# Altium footprint library con-subd.PCBLIB: 94 footprints (part 4 of 6)
Each footprint in its own frame and in the unit in brackets; x right, y up, seen from the top. Pads: shape width x height; smd on the part's side, far side on the other; paste and mask are expansions set on the pad; w line width, h text height; cw(c..) or ccw(c..) is an arc to the next point about the centre after c.
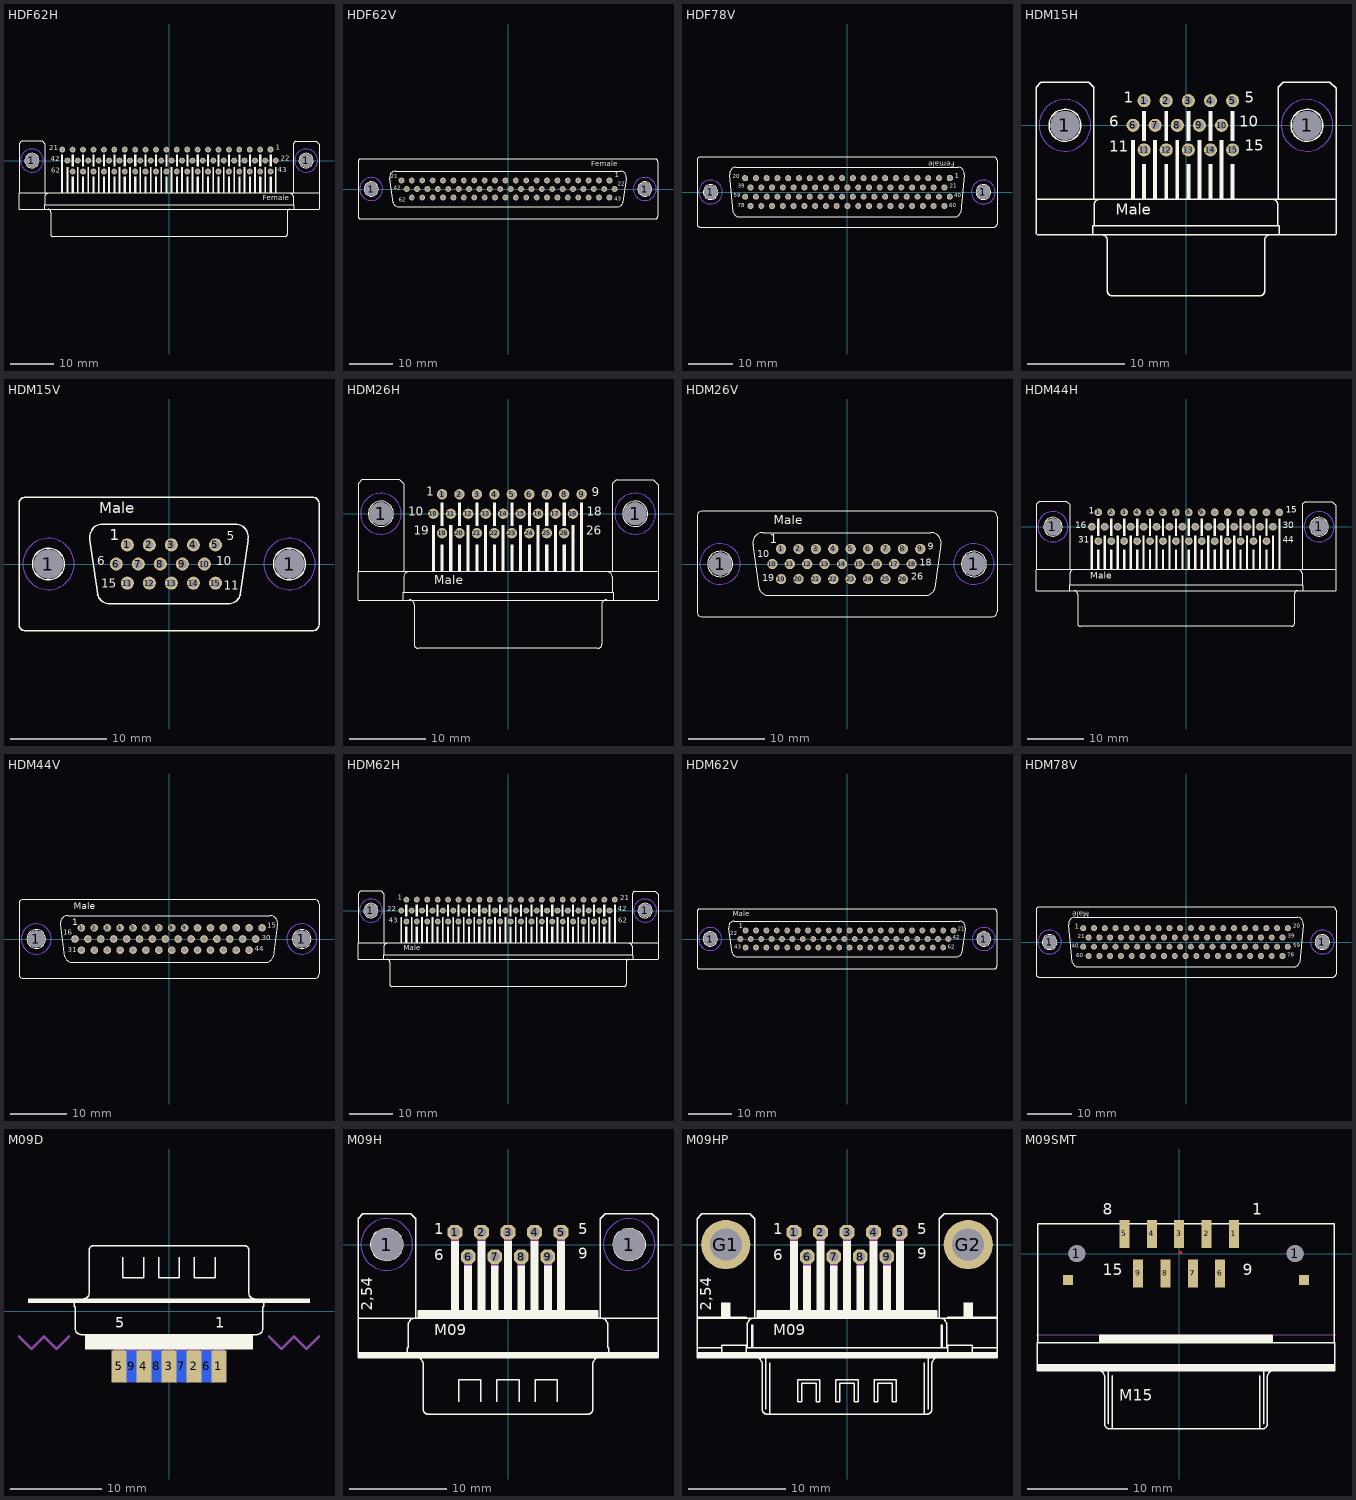
[diagram p3: the footprints below, top view; thin cyan lines are the x and y axes]

## HDF62H [mm]
pads (64):
  round 3 hole 3: 1(-31.75,0) 1(31.75,0)
  oct 1.35x1.35 hole 0.9: 1(23.527,2.54)
  round 1.35 hole 0.9: 2(21.114,2.54) 3(18.701,2.54) 4(16.288,2.54) 5(13.875,2.54) 6(11.462,2.54) 7(9.049,2.54) 8(6.636,2.54) 9(4.223,2.54) 10(1.81,2.54) 11(-0.603,2.54) 12(-3.016,2.54) 13(-5.429,2.54) 14(-7.842,2.54) 15(-10.255,2.54) 16(-12.668,2.54) 17(-15.081,2.54) 18(-17.494,2.54) 19(-19.907,2.54) 20(-22.32,2.54) 21(-24.733,2.54) 22(24.734,0) 23(22.321,0) 24(19.908,0) 25(17.495,0) 26(15.082,0) 27(12.669,0) 28(10.256,0) 29(7.843,0) 30(5.43,0) 31(3.017,0) 32(0.604,0) 33(-1.809,0) 34(-4.222,0) 35(-6.635,0) 36(-9.048,0) 37(-11.461,0) 38(-13.874,0) 39(-16.287,0) 40(-18.7,0) 41(-21.113,0) 42(-23.526,0) 43(23.527,-2.54) 44(21.114,-2.54) 45(18.701,-2.54) 46(16.288,-2.54) 47(13.875,-2.54) 48(11.462,-2.54) 49(9.049,-2.54) 50(6.636,-2.54) 51(4.223,-2.54) 52(1.81,-2.54) 53(-0.603,-2.54) 54(-3.016,-2.54) 55(-5.429,-2.54) 56(-7.842,-2.54) 57(-10.255,-2.54) 58(-12.668,-2.54) 59(-15.081,-2.54) 60(-17.494,-2.54) 61(-19.907,-2.54) 62(-22.32,-2.54)
Bottom Layer keep-out:
  circle w0: c31.75,0 r2.667
  circle w0: c-31.75,0 r2.667
Top Overlay:
  circle w0.152: c31.75,0 r1.651
  circle w0.152: c-31.75,0 r1.651
  rectangle: 24.534,-7.6 24.934,-1.5
  rectangle: 22.121,-7.6 22.521,-1.5
  rectangle: 19.708,-7.6 20.108,-1.5
  rectangle: 17.295,-7.6 17.695,-1.5
  rectangle: 14.882,-7.6 15.282,-1.5
  rectangle: 12.469,-7.6 12.869,-1.5
  rectangle: 10.056,-7.6 10.456,-1.5
  rectangle: 7.643,-7.6 8.043,-1.5
  rectangle: 5.23,-7.6 5.63,-1.5
  rectangle: 2.817,-7.6 3.217,-1.5
  rectangle: 0.404,-7.6 0.804,-1.5
  rectangle: -2.009,-7.6 -1.609,-1.5
  rectangle: -4.422,-7.6 -4.022,-1.5
  rectangle: -6.835,-7.6 -6.435,-1.5
  rectangle: -9.248,-7.6 -8.848,-1.5
  rectangle: -11.661,-7.6 -11.261,-1.5
  rectangle: -14.074,-7.6 -13.674,-1.5
  rectangle: -16.487,-7.6 -16.087,-1.5
  rectangle: -18.9,-7.6 -18.5,-1.5
  rectangle: -21.313,-7.6 -20.913,-1.5
  rectangle: -23.726,-7.6 -23.326,-1.5
  rectangle: 23.3,-7.6 23.8,-3.7
  rectangle: 23.3,-1.4 23.8,1.4
  rectangle: 20.887,-7.6 21.387,-3.7
  rectangle: 18.474,-7.6 18.974,-3.7
  rectangle: 20.887,-1.4 21.387,1.4
  rectangle: 18.474,-1.4 18.974,1.4
  rectangle: 16.061,-1.4 16.561,1.4
  rectangle: 16.061,-7.6 16.561,-3.7
  rectangle: 13.648,-7.6 14.148,-3.7
  rectangle: 13.648,-1.4 14.148,1.4
  rectangle: 11.235,-7.6 11.735,-3.7
  rectangle: 8.822,-7.6 9.322,-3.7
  rectangle: 11.235,-1.4 11.735,1.4
  rectangle: 8.822,-1.4 9.322,1.4
  rectangle: 6.409,-1.4 6.909,1.4
  rectangle: 6.409,-7.6 6.909,-3.7
  rectangle: 3.996,-7.6 4.496,-3.7
  rectangle: 3.996,-1.4 4.496,1.4
  rectangle: 1.583,-7.6 2.083,-3.7
  rectangle: -0.83,-7.6 -0.33,-3.7
  rectangle: 1.583,-1.4 2.083,1.4
  rectangle: -0.83,-1.4 -0.33,1.4
  rectangle: -3.243,-1.4 -2.743,1.4
  rectangle: -3.243,-7.6 -2.743,-3.7
  rectangle: -5.656,-7.6 -5.156,-3.7
  rectangle: -5.656,-1.4 -5.156,1.4
  rectangle: -8.069,-7.6 -7.569,-3.7
  rectangle: -10.482,-7.6 -9.982,-3.7
  rectangle: -8.069,-1.4 -7.569,1.4
  rectangle: -10.482,-1.4 -9.982,1.4
  rectangle: -12.895,-1.4 -12.395,1.4
  rectangle: -12.895,-7.6 -12.395,-3.7
  rectangle: -15.308,-7.6 -14.808,-3.7
  rectangle: -15.308,-1.4 -14.808,1.4
  rectangle: -17.721,-7.6 -17.221,-3.7
  rectangle: -20.134,-7.6 -19.634,-3.7
  rectangle: -17.721,-1.4 -17.221,1.4
  rectangle: -20.134,-1.4 -19.634,1.4
  rectangle: -22.547,-1.4 -22.047,1.4
  rectangle: -22.547,-7.6 -22.047,-3.7
  rectangle: -25,-7.6 -24.5,1.4
  lines w0.152: -34.744,-11.276 -34.744,-7.62 ; -34.7,-11.3 34.7,-11.3 ; -28.864,-11.276 -28.864,-10.368 -28.737,-10.368 ; -28.775,-7.62 -28.775,3.937 -29.283,4.445 -34.236,4.445 -34.744,3.937 -34.744,-7.62 ; -28.102,-7.62 ccw(c-28.102,-8.255) -28.737,-8.255 -28.737,-10.368 ; -28.013,-11.284 cw(c-28.013,-11.919) -27.378,-11.919 -27.378,-17.099 ccw(c-26.87,-17.099) -26.87,-17.607 26.87,-17.607 ccw(c26.87,-17.099) 27.378,-17.099 27.378,-11.919 cw(c28.013,-11.919) 28.013,-11.284 ; 28.102,-7.62 cw(c28.102,-8.255) 28.737,-8.255 28.737,-10.368 ; 28.775,-7.62 28.775,3.937 29.283,4.445 34.109,4.445 34.744,3.81 34.744,-11.276 ; 28.864,-11.276 28.864,-10.368 28.737,-10.368 ; 34.656,-7.62 -34.744,-7.62 ; -28.737,-10.368 28.737,-10.368
  text "1" at 24.742,2.095 h1.97
  text "21" at -27.69,1.895 h1.97
  text "42" at -27.333,-0.665 h1.97
  text "62" at -27.295,-3.265 h1.97
  text "22" at 25.842,-0.465 h1.97
  text "43" at 25.242,-3.165 h1.97
  text "Female" at 21.717,-9.652 h1.97
Mechanical 16:
  text "HDF62 CONEC" at -25.368,-9.891 h1.97
Via Holes:
  circle w0: c31.75,0 r2.667
  circle w0: c-31.75,0 r2.667

## HDF62V [mm]
pads (64):
  round 3 hole 3: 1(-31.75,0) 1(31.75,0)
  oct 1.35x1.35 hole 0.9: 1(23.532,1.98)
  round 1.35 hole 0.9: 2(21.119,1.98) 3(18.706,1.98) 4(16.293,1.98) 5(13.88,1.98) 6(11.467,1.98) 7(9.054,1.98) 8(6.641,1.98) 9(4.228,1.98) 10(1.815,1.98) 11(-0.598,1.98) 12(-3.011,1.98) 13(-5.424,1.98) 14(-7.837,1.98) 15(-10.25,1.98) 16(-12.663,1.98) 17(-15.076,1.98) 18(-17.489,1.98) 19(-19.902,1.98) 20(-22.315,1.98) 21(-24.728,1.98) 22(24.739,0) 23(22.325,0) 24(19.912,0) 25(17.499,0) 26(15.086,0) 27(12.673,0) 28(10.26,0) 29(7.847,0) 30(5.434,0) 31(3.021,0) 32(0.608,0) 33(-1.805,0) 34(-4.218,0) 35(-6.631,0) 36(-9.044,0) 37(-11.457,0) 38(-13.87,0) 39(-16.283,0) 40(-18.696,0) 41(-21.109,0) 42(-23.522,0) 43(23.532,-1.98) 44(21.119,-1.98) 45(18.706,-1.98) 46(16.293,-1.98) 47(13.88,-1.98) 48(11.467,-1.98) 49(9.054,-1.98) 50(6.641,-1.98) 51(4.228,-1.98) 52(1.815,-1.98) 53(-0.598,-1.98) 54(-3.011,-1.98) 55(-5.424,-1.98) 56(-7.837,-1.98) 57(-10.25,-1.98) 58(-12.663,-1.98) 59(-15.076,-1.98) 60(-17.489,-1.98) 61(-19.902,-1.98) 62(-22.315,-1.98)
Bottom Layer keep-out:
  circle w0: c31.75,0 r2.667
  circle w0: c-31.75,0 r2.667
Top Overlay:
  circle w0.152: c31.75,0 r1.651
  circle w0.152: c-31.75,0 r1.651
  lines w0.152: -34.171,-6.923 cw(c-34.171,-6.288) -34.806,-6.288 -34.806,6.288 cw(c-34.171,6.288) -34.171,6.923 34.163,6.923 ; -34.163,-6.923 34.171,-6.923 ccw(c34.171,-6.288) 34.806,-6.288 34.806,6.288 ccw(c34.171,6.288) 34.171,6.923 ; -27.447,2.537 -26.659,-3.146 ; -27.446,2.527 cw(c-26.126,2.791) -26.126,4.137 26.126,4.137 cw(c26.126,2.791) 27.441,2.504 ; -26.667,-3.13 ccw(c-25.364,-2.791) -25.364,-4.137 25.364,-4.137 ccw(c25.364,-2.791) 26.667,-3.13 ; 26.659,-3.121 27.447,2.511
  text "1" at 24.747,2.295 h1.97
  text "62" at -25.323,-3.265 h1.57
  text "21" at -27.218,2.195 h1.57
  text "42" at -26.475,-0.565 h1.57
  text "22" at 25.468,0.435 h1.57
  text "43" at 24.69,-3.065 h1.57
  text "Female" at 19.304,4.826 h1.97
Mechanical 16:
  text "HDF62 CONEC" at -24.098,5.349 h1.97
Via Holes:
  circle w0: c31.75,0 r2.667
  circle w0: c-31.75,0 r2.667

## HDF78V [mm]
pads (80):
  round 3 hole 3: 1(-30.55,0) 1(30.55,0)
  oct 1.35x1.35 hole 0.9: 1(23.024,3.12)
  round 1.35 hole 0.9: 2(20.611,3.12) 3(18.198,3.12) 4(15.785,3.12) 5(13.372,3.12) 6(10.959,3.12) 7(8.546,3.12) 8(6.133,3.12) 9(3.72,3.12) 10(1.307,3.12) 11(-1.106,3.12) 12(-3.519,3.12) 13(-5.932,3.12) 14(-8.345,3.12) 15(-10.758,3.12) 16(-13.171,3.12) 17(-15.584,3.12) 18(-17.997,3.12) 19(-20.41,3.12) 20(-22.823,3.12) 21(21.817,1.04) 22(19.404,1.04) 23(16.991,1.04) 24(14.578,1.04) 25(12.165,1.04) 26(9.752,1.04) 27(7.339,1.04) 28(4.926,1.04) 29(2.513,1.04) 30(0.1,1.04) 31(-2.313,1.04) 32(-4.726,1.04) 33(-7.139,1.04) 34(-9.552,1.04) 35(-11.965,1.04) 36(-14.378,1.04) 37(-16.791,1.04) 38(-19.204,1.04) 39(-21.617,1.04) 40(23.024,-1.04) 41(20.611,-1.04) 42(18.198,-1.04) 43(15.785,-1.04) 44(13.372,-1.04) 45(10.959,-1.04) 46(8.546,-1.04) 47(6.133,-1.04) 48(3.72,-1.04) 49(1.307,-1.04) 50(-1.106,-1.04) 51(-3.519,-1.04) 52(-5.932,-1.04) 53(-8.345,-1.04) 54(-10.758,-1.04) 55(-13.171,-1.04) 56(-15.584,-1.04) 57(-17.997,-1.04) 58(-20.41,-1.04) 59(-22.823,-1.04) 60(21.817,-3.12) 61(19.404,-3.12) 62(16.991,-3.12) 63(14.578,-3.12) 64(12.165,-3.12) 65(9.752,-3.12) 66(7.339,-3.12) 67(4.926,-3.12) 68(2.513,-3.12) 69(0.1,-3.12) 70(-2.313,-3.12) 71(-4.726,-3.12) 72(-7.139,-3.12) 73(-9.552,-3.12) 74(-11.965,-3.12) 75(-14.378,-3.12) 76(-16.791,-3.12) 77(-19.204,-3.12) 78(-21.617,-3.12)
Bottom Layer keep-out:
  circle w0: c30.55,0 r2.667
  circle w0: c-30.55,0 r2.667
Top Overlay:
  circle w0.152: c30.55,0 r1.651
  circle w0.152: c-30.55,0 r1.651
  lines w0.152: -32.971,-7.823 cw(c-32.971,-7.188) -33.606,-7.188 -33.606,7.188 cw(c-32.971,7.188) -32.971,7.823 32.963,7.823 ; -32.963,-7.823 32.971,-7.823 ccw(c32.971,-7.188) 33.606,-7.188 33.606,7.188 ccw(c32.971,7.188) 32.971,7.823 ; -26.247,3.937 -25.459,-4.546 ; -26.246,3.927 cw(c-24.926,4.191) -24.926,5.537 24.926,5.537 cw(c24.926,4.191) 26.242,3.904 ; -25.467,-4.53 ccw(c-24.164,-4.191) -24.164,-5.537 24.164,-5.537 ccw(c24.164,-4.191) 25.467,-4.53 ; 25.459,-4.521 26.247,3.911
  text "1" at 24.132,2.695 h1.97
  text "21" at 23.053,0.635 h1.57
  text "40" at 23.975,-1.465 h1.57
  text "60" at 22.875,-3.765 h1.57
  text "20" at -25.618,2.795 h1.57
  text "39" at -24.475,0.635 h1.57
  text "59" at -25.423,-1.465 h1.57
  text "78" at -24.423,-3.765 h1.57
  text "Female" at 24.13,7.239 h1.97
Mechanical 16:
  text "HDF78 CONEC" at -23.998,6.149 h1.97
Via Holes:
  circle w0: c30.55,0 r2.667
  circle w0: c-30.55,0 r2.667

## HDM15H [mm]
pads (17):
  round 3 hole 3: 1(-12.5,0) 1(12.5,0)
  round 1.35 hole 0.9: 1(-4.329,2.54) 2(-2.043,2.54) 3(0.243,2.54) 4(2.529,2.54) 5(4.815,2.54) 6(-5.472,0) 7(-3.186,0) 8(-0.9,0) 9(1.386,0) 10(3.672,0) 11(-4.329,-2.54) 12(-2.043,-2.54) 13(0.243,-2.54) 14(2.529,-2.54) 15(4.815,-2.54)
Bottom Layer keep-out:
  circle w0: c12.5,0 r2.667
  circle w0: c-12.5,0 r2.667
Top Overlay:
  circle w0.152: c12.5,0 r1.651
  circle w0.152: c-12.5,0 r1.651
  rectangle: -1.1,-7.6 -0.7,-1.5
  rectangle: 1.186,-7.6 1.586,-1.5
  rectangle: 3.472,-7.6 3.872,-1.5
  rectangle: -3.386,-7.6 -2.986,-1.5
  rectangle: -5.672,-7.6 -5.272,-1.5
  rectangle: 0.043,-7.6 0.443,-4
  rectangle: 2.329,-7.6 2.729,-4
  rectangle: 4.615,-7.6 5.015,-4
  rectangle: -2.243,-7.6 -1.843,-4
  rectangle: -4.529,-7.6 -4.129,-4
  rectangle: 4.615,-1.6 5.015,1.5
  rectangle: 2.329,-1.6 2.729,1.5
  rectangle: 0.043,-1.6 0.443,1.5
  rectangle: -2.243,-1.6 -1.843,1.5
  rectangle: -4.529,-1.6 -4.129,1.5
  lines w0.152: -15.494,-11.276 -15.494,-7.62 ; -15.38,-11.294 15.476,-11.294 ; -9.614,-11.276 -9.614,-10.368 -9.487,-10.368 ; -9.525,-7.62 -9.525,3.937 -10.033,4.445 -14.986,4.445 -15.494,3.937 -15.494,-7.62 ; -8.852,-7.62 ccw(c-8.852,-8.255) -9.487,-8.255 -9.487,-10.368 ; -8.763,-11.284 cw(c-8.763,-11.919) -8.128,-11.919 -8.128,-17.099 ccw(c-7.62,-17.099) -7.62,-17.607 7.62,-17.607 ccw(c7.62,-17.099) 8.128,-17.099 8.128,-11.919 cw(c8.763,-11.919) 8.763,-11.284 ; 8.852,-7.62 cw(c8.852,-8.255) 9.487,-8.255 9.487,-10.368 ; 9.525,-7.62 9.525,3.937 10.033,4.445 14.859,4.445 15.494,3.81 15.494,-11.276 ; 9.614,-11.276 9.614,-10.368 9.487,-10.368 ; 15.475,-7.62 -15.494,-7.62 ; -9.487,-10.368 9.487,-10.368
  text "1" at -6.42,1.895 h1.97
  text "5" at 6.085,1.895 h1.97
  text "6" at -7.92,-0.565 h1.97
  text "10" at 5.485,-0.565 h1.97
  text "15" at 6.08,-3.065 h1.97
  text "11" at -7.92,-3.165 h1.97
  text "Male" at -7.239,-9.652 h1.97
Mechanical 16:
  text "HDM15 CONEC" at -6.064,-14.717 h1.97
Via Holes:
  circle w0: c12.5,0 r2.667
  circle w0: c-12.5,0 r2.667

## HDM15V [mm]
pads (17):
  round 3 hole 3: 1(-12.5,0) 1(12.5,0)
  round 1.35 hole 0.9: 1(-4.324,1.98) 2(-2.038,1.98) 3(0.248,1.98) 4(2.534,1.98) 5(4.82,1.98) 6(-5.467,0) 7(-3.181,0) 8(-0.895,0) 9(1.391,0) 10(3.677,0) 11(-4.324,-1.98) 12(-2.038,-1.98) 13(0.248,-1.98) 14(2.534,-1.98) 15(4.82,-1.98)
Bottom Layer keep-out:
  circle w0: c12.5,0 r2.667
  circle w0: c-12.5,0 r2.667
Top Overlay:
  circle w0.152: c12.5,0 r1.651
  circle w0.152: c-12.5,0 r1.651
  lines w0.152: -14.921,-6.923 cw(c-14.921,-6.288) -15.556,-6.288 -15.556,6.288 cw(c-14.921,6.288) -14.921,6.923 14.913,6.923 ; -14.913,-6.923 14.921,-6.923 ccw(c14.921,-6.288) 15.556,-6.288 15.556,6.288 ccw(c14.921,6.288) 14.921,6.923 ; -8.196,2.527 cw(c-6.876,2.791) -6.876,4.137 6.876,4.137 cw(c6.876,2.791) 8.191,2.504 ; -8.197,2.537 -7.409,-3.146 ; -7.417,-3.13 ccw(c-6.114,-2.791) -6.114,-4.137 6.114,-4.137 ccw(c6.114,-2.791) 7.417,-3.13 ; 7.409,-3.121 8.197,2.511
  text "1" at -6.12,2.035 h1.97
  text "5" at 5.985,2.135 h1.57
  text "6" at -7.42,-0.465 h1.57
  text "10" at 4.885,-0.465 h1.57
  text "15" at -7.02,-2.765 h1.57
  text "11" at 5.68,-3.005 h1.57
  text "Male" at -7.239,4.826 h1.97
Mechanical 16:
  text "HDF15 CONEC" at 0.032,5.349 h1.97
Via Holes:
  circle w0: c12.5,0 r2.667
  circle w0: c-12.5,0 r2.667

## HDM26H [mm]
pads (28):
  round 3 hole 3: 1(-16.65,0) 1(16.65,0)
  round 1.35 hole 0.9: 1(-8.639,2.54) 2(-6.353,2.54) 3(-4.067,2.54) 4(-1.781,2.54) 5(0.505,2.54) 6(2.791,2.54) 7(5.077,2.54) 8(7.363,2.54) 9(9.649,2.54) 10(-9.782,0) 11(-7.496,0) 12(-5.21,0) 13(-2.924,0) 14(-0.638,0) 15(1.648,0) 16(3.934,0) 17(6.22,0) 18(8.506,0) 19(-8.639,-2.54) 20(-6.353,-2.54) 21(-4.067,-2.54) 22(-1.781,-2.54) 23(0.505,-2.54) 24(2.791,-2.54) 25(5.077,-2.54) 26(7.363,-2.54)
Bottom Layer keep-out:
  circle w0: c16.65,0 r2.667
  circle w0: c-16.65,0 r2.667
Top Overlay:
  circle w0.152: c16.65,0 r1.651
  circle w0.152: c-16.65,0 r1.651
  rectangle: -5.41,-7.6 -5.01,-1.5
  rectangle: -3.124,-7.6 -2.724,-1.5
  rectangle: -0.838,-7.6 -0.438,-1.5
  rectangle: -7.696,-7.6 -7.296,-1.5
  rectangle: -9.982,-7.6 -9.582,-1.5
  rectangle: -4.267,-7.6 -3.867,-4
  rectangle: -1.981,-7.6 -1.581,-4
  rectangle: 0.305,-7.6 0.705,-4
  rectangle: -6.553,-7.6 -6.153,-4
  rectangle: -8.839,-7.6 -8.439,-4
  rectangle: 0.305,-1.6 0.705,1.5
  rectangle: -1.981,-1.6 -1.581,1.5
  rectangle: -4.267,-1.6 -3.867,1.5
  rectangle: -6.553,-1.6 -6.153,1.5
  rectangle: -8.839,-1.6 -8.439,1.5
  rectangle: 6.02,-7.6 6.42,-1.5
  rectangle: 8.306,-7.6 8.706,-1.5
  rectangle: 3.734,-7.6 4.134,-1.5
  rectangle: 7.163,-7.6 7.563,-4
  rectangle: 4.877,-7.6 5.277,-4
  rectangle: 2.591,-7.6 2.991,-4
  rectangle: 1.448,-7.6 1.848,-1.5
  rectangle: 2.591,-1.6 2.991,1.5
  rectangle: 4.877,-1.6 5.277,1.5
  rectangle: 7.163,-1.6 7.563,1.5
  rectangle: 9.449,-1.6 9.849,1.5
  rectangle: 9.449,-7.6 9.849,-1.5
  lines w0.152: -19.644,-11.276 -19.644,-7.62 ; -19.6,-11.3 19.6,-11.3 ; -13.764,-11.276 -13.764,-10.368 -13.637,-10.368 ; -13.675,-7.62 -13.675,3.937 -14.183,4.445 -19.136,4.445 -19.644,3.937 -19.644,-7.62 ; -13.002,-7.62 ccw(c-13.002,-8.255) -13.637,-8.255 -13.637,-10.368 ; -12.913,-11.284 cw(c-12.913,-11.919) -12.278,-11.919 -12.278,-17.099 ccw(c-11.77,-17.099) -11.77,-17.607 11.77,-17.607 ccw(c11.77,-17.099) 12.278,-17.099 12.278,-11.919 cw(c12.913,-11.919) 12.913,-11.284 ; 13.002,-7.62 cw(c13.002,-8.255) 13.637,-8.255 13.637,-10.368 ; 13.675,-7.62 13.675,3.937 14.183,4.445 19.009,4.445 19.644,3.81 19.644,-11.276 ; 13.764,-11.276 13.764,-10.368 13.637,-10.368 ; 19.556,-7.62 -19.644,-7.62 ; -13.637,-10.368 13.637,-10.368
  text "1" at -10.727,1.995 h1.97
  text "10" at -13.04,-0.665 h1.97
  text "9" at 10.981,1.895 h1.97
  text "18" at 10.281,-0.665 h1.97
  text "19" at -12.327,-3.165 h1.97
  text "26" at 10.219,-3.165 h1.97
  text "Male" at -9.652,-9.652 h1.97
Mechanical 16:
  text "HDM26 CONEC" at -1.238,-9.891 h1.97
Via Holes:
  circle w0: c16.65,0 r2.667
  circle w0: c-16.65,0 r2.667

## HDM26V [mm]
pads (28):
  round 3 hole 3: 1(-16.65,0) 1(16.65,0)
  round 1.35 hole 0.9: 1(-8.658,1.98) 2(-6.372,1.98) 3(-4.086,1.98) 4(-1.8,1.98) 5(0.486,1.98) 6(2.772,1.98) 7(5.058,1.98) 8(7.344,1.98) 9(9.63,1.98) 10(-9.801,0) 11(-7.515,0) 12(-5.229,0) 13(-2.943,0) 14(-0.657,0) 15(1.629,0) 16(3.915,0) 17(6.201,0) 18(8.487,0) 19(-8.658,-1.98) 20(-6.372,-1.98) 21(-4.086,-1.98) 22(-1.8,-1.98) 23(0.486,-1.98) 24(2.772,-1.98) 25(5.058,-1.98) 26(7.344,-1.98)
Bottom Layer keep-out:
  circle w0: c16.672,0 r2.667
  circle w0: c-16.672,0 r2.667
Top Overlay:
  circle w0.152: c16.672,0 r1.651
  circle w0.152: c-16.672,0 r1.651
  lines w0.152: -19.071,-6.923 cw(c-19.071,-6.288) -19.706,-6.288 -19.706,6.288 cw(c-19.071,6.288) -19.071,6.923 19.063,6.923 ; -19.063,-6.923 19.071,-6.923 ccw(c19.071,-6.288) 19.706,-6.288 19.706,6.288 ccw(c19.071,6.288) 19.071,6.923 ; -12.347,2.537 -11.559,-3.146 ; -12.346,2.527 cw(c-11.026,2.791) -11.026,4.137 11.026,4.137 cw(c11.026,2.79) 12.342,2.504 ; -11.567,-3.13 ccw(c-10.264,-2.791) -10.264,-4.137 10.264,-4.137 ccw(c10.264,-2.791) 11.567,-3.13 ; 11.559,-3.121 12.347,2.511
  text "1" at -10.179,2.335 h1.97
  text "26" at 8.458,-2.405 h1.57
  text "10" at -11.76,0.535 h1.57
  text "9" at 10.63,1.535 h1.57
  text "18" at 9.533,-0.565 h1.57
  text "19" at -11.111,-2.605 h1.57
  text "Male" at -9.652,4.826 h1.97
Mechanical 16:
  text "HDF26 CONEC" at 0.032,5.349 h1.97
Via Holes:
  circle w0: c16.672,0 r2.667
  circle w0: c-16.672,0 r2.667

## HDM44H [mm]
pads (46):
  round 3 hole 3: 1(-23.52,0) 1(23.52,0)
  round 1.35 hole 0.9: 1(-15.497,2.54) 2(-13.211,2.54) 3(-10.925,2.54) 4(-8.639,2.54) 5(-6.353,2.54) 6(-4.067,2.54) 7(-1.781,2.54) 8(0.505,2.54) 9(2.791,2.54) 10(5.077,2.54) 11(7.363,2.54) 12(9.649,2.54) 13(11.935,2.54) 14(14.221,2.54) 15(16.507,2.54) 16(-16.64,0) 17(-14.354,0) 18(-12.068,0) 19(-9.782,0) 20(-7.496,0) 21(-5.21,0) 22(-2.924,0) 23(-0.638,0) 24(1.648,0) 25(3.934,0) 26(6.22,0) 27(8.506,0) 28(10.792,0) 29(13.078,0) 30(15.364,0) 31(-15.497,-2.54) 32(-13.211,-2.54) 33(-10.925,-2.54) 34(-8.639,-2.54) 35(-6.353,-2.54) 36(-4.067,-2.54) 37(-1.781,-2.54) 38(0.505,-2.54) 39(2.791,-2.54) 40(5.077,-2.54) 41(7.363,-2.54) 42(9.649,-2.54) 43(11.935,-2.54) 44(14.221,-2.54)
Bottom Layer keep-out:
  circle w0: c23.52,0 r2.667
  circle w0: c-23.52,0 r2.667
Top Overlay:
  circle w0.152: c23.52,0 r1.651
  circle w0.152: c-23.52,0 r1.651
  rectangle: -12.268,-7.6 -11.868,-1.5
  rectangle: -9.982,-7.6 -9.582,-1.5
  rectangle: -7.696,-7.6 -7.296,-1.5
  rectangle: -14.554,-7.6 -14.154,-1.5
  rectangle: -16.84,-7.6 -16.44,-1.5
  rectangle: -11.125,-7.6 -10.725,-4
  rectangle: -8.839,-7.6 -8.439,-4
  rectangle: -6.553,-7.6 -6.153,-4
  rectangle: -13.411,-7.6 -13.011,-4
  rectangle: -15.697,-7.6 -15.297,-4
  rectangle: -6.553,-1.6 -6.153,1.5
  rectangle: -8.839,-1.6 -8.439,1.5
  rectangle: -11.125,-1.6 -10.725,1.5
  rectangle: -13.411,-1.6 -13.011,1.5
  rectangle: -15.697,-1.6 -15.297,1.5
  rectangle: -0.838,-7.6 -0.438,-1.5
  rectangle: 1.448,-7.6 1.848,-1.5
  rectangle: -3.124,-7.6 -2.724,-1.5
  rectangle: 0.305,-7.6 0.705,-4
  rectangle: -1.981,-7.6 -1.581,-4
  rectangle: -4.267,-7.6 -3.867,-4
  rectangle: -5.41,-7.6 -5.01,-1.5
  rectangle: -4.267,-1.6 -3.867,1.5
  rectangle: -1.981,-1.6 -1.581,1.5
  rectangle: 0.305,-1.6 0.705,1.5
  rectangle: 3.734,-7.6 4.134,-1.5
  rectangle: 6.02,-7.6 6.42,-1.5
  rectangle: 8.306,-7.6 8.706,-1.5
  rectangle: 4.877,-7.6 5.277,-4
  rectangle: 7.163,-7.6 7.563,-4
  rectangle: 9.449,-7.6 9.849,-4
  rectangle: 2.591,-7.6 2.991,-4
  rectangle: 15.164,-7.6 15.564,-1.5
  rectangle: 16.307,-7.6 16.707,-1.5
  rectangle: 12.878,-7.6 13.278,-1.5
  rectangle: 14.021,-7.6 14.421,-4
  rectangle: 11.735,-7.6 12.135,-4
  rectangle: 10.592,-7.6 10.992,-1.5
  rectangle: 9.449,-1.6 9.849,1.5
  rectangle: 7.163,-1.6 7.563,1.5
  rectangle: 4.877,-1.6 5.277,1.5
  rectangle: 2.591,-1.6 2.991,1.5
  rectangle: 11.735,-1.6 12.135,1.5
  rectangle: 14.021,-1.6 14.421,1.5
  rectangle: 16.307,-1.6 16.707,1.5
  lines w0.152: -26.514,-11.276 -26.514,-7.62 ; -26.47,-11.3 26.47,-11.3 ; -20.634,-11.276 -20.634,-10.368 -20.507,-10.368 ; -20.545,-7.62 -20.545,3.937 -21.053,4.445 -26.006,4.445 -26.514,3.937 -26.514,-7.62 ; -19.872,-7.62 ccw(c-19.872,-8.255) -20.507,-8.255 -20.507,-10.368 ; -19.783,-11.284 cw(c-19.783,-11.919) -19.148,-11.919 -19.148,-17.099 ccw(c-18.64,-17.099) -18.64,-17.607 18.64,-17.607 ccw(c18.64,-17.099) 19.148,-17.099 19.148,-11.919 cw(c19.783,-11.919) 19.783,-11.284 ; 19.872,-7.62 cw(c19.872,-8.255) 20.507,-8.255 20.507,-10.368 ; 20.545,-7.62 20.545,3.937 21.053,4.445 25.879,4.445 26.514,3.81 26.514,-11.276 ; 20.634,-11.276 20.634,-10.368 20.507,-10.368 ; 26.426,-7.62 -26.514,-7.62 ; -20.507,-10.368 20.507,-10.368
  text "1" at -17.234,1.895 h1.97
  text "16" at -19.547,-0.665 h1.97
  text "31" at -19.047,-3.265 h1.97
  text "15" at 17.644,1.995 h1.97
  text "30" at 17.088,-0.665 h1.97
  text "44" at 17.139,-3.265 h1.97
  text "Male" at -16.891,-9.652 h1.97
Mechanical 16:
  text "HDM44 CONEC" at 6.001,-9.891 h1.97
Via Holes:
  circle w0: c23.52,0 r2.667
  circle w0: c-23.52,0 r2.667

## HDM44V [mm]
pads (46):
  round 3 hole 3: 1(-23.52,0) 1(23.52,0)
  round 1.35 hole 0.9: 1(-15.516,1.98) 2(-13.23,1.98) 3(-10.944,1.98) 4(-8.658,1.98) 5(-6.372,1.98) 6(-4.086,1.98) 7(-1.8,1.98) 8(0.486,1.98) 9(2.772,1.98) 10(5.058,1.98) 11(7.344,1.98) 12(9.63,1.98) 13(11.916,1.98) 14(14.202,1.98) 15(16.488,1.98) 16(-16.659,0) 17(-14.373,0) 18(-12.087,0) 19(-9.801,0) 20(-7.515,0) 21(-5.229,0) 22(-2.943,0) 23(-0.657,0) 24(1.629,0) 25(3.915,0) 26(6.201,0) 27(8.487,0) 28(10.773,0) 29(13.059,0) 30(15.345,0) 31(-15.516,-1.98) 32(-13.23,-1.98) 33(-10.944,-1.98) 34(-8.658,-1.98) 35(-6.372,-1.98) 36(-4.086,-1.98) 37(-1.8,-1.98) 38(0.486,-1.98) 39(2.772,-1.98) 40(5.058,-1.98) 41(7.344,-1.98) 42(9.63,-1.98) 43(11.916,-1.98) 44(14.202,-1.98)
Bottom Layer keep-out:
  circle w0: c23.52,0 r2.667
  circle w0: c-23.52,0 r2.667
Top Overlay:
  circle w0.152: c23.52,0 r1.651
  circle w0.152: c-23.52,0 r1.651
  lines w0.152: -25.941,-6.923 cw(c-25.941,-6.288) -26.576,-6.288 -26.576,6.288 cw(c-25.941,6.288) -25.941,6.923 25.933,6.923 ; -25.933,-6.923 25.941,-6.923 ccw(c25.941,-6.288) 26.576,-6.288 26.576,6.288 ccw(c25.941,6.288) 25.941,6.923 ; -19.216,2.527 cw(c-17.896,2.791) -17.896,4.137 17.896,4.137 cw(c17.896,2.791) 19.212,2.504 ; -19.217,2.537 -18.429,-3.146 ; -18.437,-3.13 ccw(c-17.134,-2.791) -17.134,-4.137 17.134,-4.137 ccw(c17.134,-2.791) 18.437,-3.13 ; 18.429,-3.121 19.217,2.511
  text "1" at -17.123,1.995 h1.97
  text "44" at 15.227,-2.565 h1.57
  text "16" at -18.772,0.435 h1.57
  text "15" at 17.442,1.595 h1.57
  text "30" at 16.415,-0.565 h1.57
  text "31" at -17.98,-2.665 h1.57
  text "Male" at -16.891,4.826 h1.97
Mechanical 16:
  text "HDM44 CONEC" at 7.271,5.349 h1.97
Via Holes:
  circle w0: c23.52,0 r2.667
  circle w0: c-23.52,0 r2.667

## HDM62H [mm]
pads (64):
  round 3 hole 3: 1(-31.75,0) 1(31.75,0)
  round 1.35 hole 0.9: 1(-23.527,2.54) 2(-21.114,2.54) 3(-18.701,2.54) 4(-16.288,2.54) 5(-13.875,2.54) 6(-11.462,2.54) 7(-9.049,2.54) 8(-6.636,2.54) 9(-4.223,2.54) 10(-1.81,2.54) 11(0.603,2.54) 12(3.016,2.54) 13(5.429,2.54) 14(7.842,2.54) 15(10.255,2.54) 16(12.668,2.54) 17(15.081,2.54) 18(17.494,2.54) 19(19.907,2.54) 20(22.32,2.54) 21(24.733,2.54) 22(-24.734,0) 23(-22.321,0) 24(-19.908,0) 25(-17.495,0) 26(-15.082,0) 27(-12.669,0) 28(-10.256,0) 29(-7.843,0) 30(-5.43,0) 31(-3.017,0) 32(-0.604,0) 33(1.809,0) 34(4.222,0) 35(6.635,0) 36(9.048,0) 37(11.461,0) 38(13.874,0) 39(16.287,0) 40(18.7,0) 41(21.113,0) 42(23.526,0) 43(-23.527,-2.54) 44(-21.114,-2.54) 45(-18.701,-2.54) 46(-16.288,-2.54) 47(-13.875,-2.54) 48(-11.462,-2.54) 49(-9.049,-2.54) 50(-6.636,-2.54) 51(-4.223,-2.54) 52(-1.81,-2.54) 53(0.603,-2.54) 54(3.016,-2.54) 55(5.429,-2.54) 56(7.842,-2.54) 57(10.255,-2.54) 58(12.668,-2.54) 59(15.081,-2.54) 60(17.494,-2.54) 61(19.907,-2.54) 62(22.32,-2.54)
Bottom Layer keep-out:
  circle w0: c31.75,0 r2.667
  circle w0: c-31.75,0 r2.667
Top Overlay:
  circle w0.152: c31.75,0 r1.651
  circle w0.152: c-31.75,0 r1.651
  rectangle: -24.934,-7.6 -24.534,-1.5
  rectangle: -22.521,-7.6 -22.121,-1.5
  rectangle: -20.108,-7.6 -19.708,-1.5
  rectangle: -17.695,-7.6 -17.295,-1.5
  rectangle: -15.282,-7.6 -14.882,-1.5
  rectangle: -12.869,-7.6 -12.469,-1.5
  rectangle: -10.456,-7.6 -10.056,-1.5
  rectangle: -8.043,-7.6 -7.643,-1.5
  rectangle: -5.63,-7.6 -5.23,-1.5
  rectangle: -3.217,-7.6 -2.817,-1.5
  rectangle: -0.804,-7.6 -0.404,-1.5
  rectangle: 1.609,-7.6 2.009,-1.5
  rectangle: 4.022,-7.6 4.422,-1.5
  rectangle: 6.435,-7.6 6.835,-1.5
  rectangle: 8.848,-7.6 9.248,-1.5
  rectangle: 11.261,-7.6 11.661,-1.5
  rectangle: 13.674,-7.6 14.074,-1.5
  rectangle: 16.087,-7.6 16.487,-1.5
  rectangle: 18.5,-7.6 18.9,-1.5
  rectangle: 20.913,-7.6 21.313,-1.5
  rectangle: 23.326,-7.6 23.726,-1.5
  rectangle: -23.8,-7.6 -23.3,-3.7
  rectangle: -23.8,-1.4 -23.3,1.4
  rectangle: -21.387,-7.6 -20.887,-3.7
  rectangle: -18.974,-7.6 -18.474,-3.7
  rectangle: -21.387,-1.4 -20.887,1.4
  rectangle: -18.974,-1.4 -18.474,1.4
  rectangle: -16.561,-1.4 -16.061,1.4
  rectangle: -16.561,-7.6 -16.061,-3.7
  rectangle: -14.148,-7.6 -13.648,-3.7
  rectangle: -14.148,-1.4 -13.648,1.4
  rectangle: -11.735,-7.6 -11.235,-3.7
  rectangle: -9.322,-7.6 -8.822,-3.7
  rectangle: -11.735,-1.4 -11.235,1.4
  rectangle: -9.322,-1.4 -8.822,1.4
  rectangle: -6.909,-1.4 -6.409,1.4
  rectangle: -6.909,-7.6 -6.409,-3.7
  rectangle: -4.496,-7.6 -3.996,-3.7
  rectangle: -4.496,-1.4 -3.996,1.4
  rectangle: -2.083,-7.6 -1.583,-3.7
  rectangle: 0.33,-7.6 0.83,-3.7
  rectangle: -2.083,-1.4 -1.583,1.4
  rectangle: 0.33,-1.4 0.83,1.4
  rectangle: 2.743,-1.4 3.243,1.4
  rectangle: 2.743,-7.6 3.243,-3.7
  rectangle: 5.156,-7.6 5.656,-3.7
  rectangle: 5.156,-1.4 5.656,1.4
  rectangle: 7.569,-7.6 8.069,-3.7
  rectangle: 9.982,-7.6 10.482,-3.7
  rectangle: 7.569,-1.4 8.069,1.4
  rectangle: 9.982,-1.4 10.482,1.4
  rectangle: 12.395,-1.4 12.895,1.4
  rectangle: 12.395,-7.6 12.895,-3.7
  rectangle: 14.808,-7.6 15.308,-3.7
  rectangle: 14.808,-1.4 15.308,1.4
  rectangle: 17.221,-7.6 17.721,-3.7
  rectangle: 19.634,-7.6 20.134,-3.7
  rectangle: 17.221,-1.4 17.721,1.4
  rectangle: 19.634,-1.4 20.134,1.4
  rectangle: 22.047,-1.4 22.547,1.4
  rectangle: 22.047,-7.6 22.547,-3.7
  rectangle: 24.5,-7.6 25,1.4
  lines w0.152: -34.744,-11.276 -34.744,-7.62 ; -34.7,-11.3 34.7,-11.3 ; -28.864,-11.276 -28.864,-10.368 -28.737,-10.368 ; -28.775,-7.62 -28.775,3.937 -29.283,4.445 -34.236,4.445 -34.744,3.937 -34.744,-7.62 ; -28.102,-7.62 ccw(c-28.102,-8.255) -28.737,-8.255 -28.737,-10.368 ; -28.013,-11.284 cw(c-28.013,-11.919) -27.378,-11.919 -27.378,-17.099 ccw(c-26.87,-17.099) -26.87,-17.607 26.87,-17.607 ccw(c26.87,-17.099) 27.378,-17.099 27.378,-11.919 cw(c28.013,-11.919) 28.013,-11.284 ; 28.102,-7.62 cw(c28.102,-8.255) 28.737,-8.255 28.737,-10.368 ; 28.775,-7.62 28.775,3.937 29.283,4.445 34.109,4.445 34.744,3.81 34.744,-11.276 ; 28.864,-11.276 28.864,-10.368 28.737,-10.368 ; 34.656,-7.62 -34.744,-7.62 ; -28.737,-10.368 28.737,-10.368
  text "1" at -25.531,1.995 h1.97
  text "21" at 25.996,1.895 h1.97
  text "42" at 25.453,-0.665 h1.97
  text "62" at 25.491,-3.265 h1.97
  text "22" at -27.944,-0.565 h1.97
  text "43" at -27.644,-3.265 h1.97
  text "Male" at -24.13,-9.652 h1.97
Mechanical 16:
  text "HDM62 CONEC" at 13.24,-9.891 h1.97
Via Holes:
  circle w0: c31.75,0 r2.667
  circle w0: c-31.75,0 r2.667

## HDM62V [mm]
pads (64):
  round 3 hole 3: 1(-31.75,0) 1(31.75,0)
  round 1.35 hole 0.9: 1(-23.532,1.98) 2(-21.119,1.98) 3(-18.706,1.98) 4(-16.293,1.98) 5(-13.88,1.98) 6(-11.467,1.98) 7(-9.054,1.98) 8(-6.641,1.98) 9(-4.228,1.98) 10(-1.815,1.98) 11(0.598,1.98) 12(3.011,1.98) 13(5.424,1.98) 14(7.837,1.98) 15(10.25,1.98) 16(12.663,1.98) 17(15.076,1.98) 18(17.489,1.98) 19(19.902,1.98) 20(22.315,1.98) 21(24.728,1.98) 22(-24.739,0) 23(-22.325,0) 24(-19.912,0) 25(-17.499,0) 26(-15.086,0) 27(-12.673,0) 28(-10.26,0) 29(-7.847,0) 30(-5.434,0) 31(-3.021,0) 32(-0.608,0) 33(1.805,0) 34(4.218,0) 35(6.631,0) 36(9.044,0) 37(11.457,0) 38(13.87,0) 39(16.283,0) 40(18.696,0) 41(21.109,0) 42(23.522,0) 43(-23.532,-1.98) 44(-21.119,-1.98) 45(-18.706,-1.98) 46(-16.293,-1.98) 47(-13.88,-1.98) 48(-11.467,-1.98) 49(-9.054,-1.98) 50(-6.641,-1.98) 51(-4.228,-1.98) 52(-1.815,-1.98) 53(0.598,-1.98) 54(3.011,-1.98) 55(5.424,-1.98) 56(7.837,-1.98) 57(10.25,-1.98) 58(12.663,-1.98) 59(15.076,-1.98) 60(17.489,-1.98) 61(19.902,-1.98) 62(22.315,-1.98)
Bottom Layer keep-out:
  circle w0: c31.75,0 r2.667
  circle w0: c-31.75,0 r2.667
Top Overlay:
  circle w0.152: c31.75,0 r1.651
  circle w0.152: c-31.75,0 r1.651
  lines w0.152: -34.171,-6.923 cw(c-34.171,-6.288) -34.806,-6.288 -34.806,6.288 cw(c-34.171,6.288) -34.171,6.923 34.163,6.923 ; -34.163,-6.923 34.171,-6.923 ccw(c34.171,-6.288) 34.806,-6.288 34.806,6.288 ccw(c34.171,6.288) 34.171,6.923 ; -27.447,2.537 -26.659,-3.146 ; -27.446,2.527 cw(c-26.126,2.791) -26.126,4.137 26.126,4.137 cw(c26.126,2.791) 27.441,2.504 ; -26.667,-3.13 ccw(c-25.364,-2.791) -25.364,-4.137 25.364,-4.137 ccw(c25.364,-2.791) 26.667,-3.13 ; 26.659,-3.121 27.447,2.511
  text "1" at -25.153,1.995 h1.97
  text "62" at 23.407,-2.565 h1.57
  text "21" at 25.722,1.595 h1.57
  text "42" at 24.595,-0.365 h1.57
  text "22" at -27.102,0.535 h1.57
  text "43" at -26.21,-2.565 h1.57
  text "Male" at -26.543,4.826 h1.97
Mechanical 16:
  text "HDM62 CONEC" at 14.51,5.349 h1.97
Via Holes:
  circle w0: c31.75,0 r2.667
  circle w0: c-31.75,0 r2.667

## HDM78V [mm]
pads (80):
  round 3 hole 3: 1(-30.55,0) 1(30.55,0)
  round 1.35 hole 0.9: 1(-23.024,3.12) 2(-20.611,3.12) 3(-18.198,3.12) 4(-15.785,3.12) 5(-13.372,3.12) 6(-10.959,3.12) 7(-8.546,3.12) 8(-6.133,3.12) 9(-3.72,3.12) 10(-1.307,3.12) 11(1.106,3.12) 12(3.519,3.12) 13(5.932,3.12) 14(8.345,3.12) 15(10.758,3.12) 16(13.171,3.12) 17(15.584,3.12) 18(17.997,3.12) 19(20.41,3.12) 20(22.823,3.12) 21(-21.817,1.04) 22(-19.404,1.04) 23(-16.991,1.04) 24(-14.578,1.04) 25(-12.165,1.04) 26(-9.752,1.04) 27(-7.339,1.04) 28(-4.926,1.04) 29(-2.513,1.04) 30(-0.1,1.04) 31(2.313,1.04) 32(4.726,1.04) 33(7.139,1.04) 34(9.552,1.04) 35(11.965,1.04) 36(14.378,1.04) 37(16.791,1.04) 38(19.204,1.04) 39(21.617,1.04) 40(-23.024,-1.04) 41(-20.611,-1.04) 42(-18.198,-1.04) 43(-15.785,-1.04) 44(-13.372,-1.04) 45(-10.959,-1.04) 46(-8.546,-1.04) 47(-6.133,-1.04) 48(-3.72,-1.04) 49(-1.307,-1.04) 50(1.106,-1.04) 51(3.519,-1.04) 52(5.932,-1.04) 53(8.345,-1.04) 54(10.758,-1.04) 55(13.171,-1.04) 56(15.584,-1.04) 57(17.997,-1.04) 58(20.41,-1.04) 59(22.823,-1.04) 60(-21.817,-3.12) 61(-19.404,-3.12) 62(-16.991,-3.12) 63(-14.578,-3.12) 64(-12.165,-3.12) 65(-9.752,-3.12) 66(-7.339,-3.12) 67(-4.926,-3.12) 68(-2.513,-3.12) 69(-0.1,-3.12) 70(2.313,-3.12) 71(4.726,-3.12) 72(7.139,-3.12) 73(9.552,-3.12) 74(11.965,-3.12) 75(14.378,-3.12) 76(16.791,-3.12) 77(19.204,-3.12) 78(21.617,-3.12)
Bottom Layer keep-out:
  circle w0: c30.55,0 r2.667
  circle w0: c-30.55,0 r2.667
Top Overlay:
  circle w0.152: c30.55,0 r1.651
  circle w0.152: c-30.55,0 r1.651
  lines w0.152: -32.971,-7.823 cw(c-32.971,-7.188) -33.606,-7.188 -33.606,7.188 cw(c-32.971,7.188) -32.971,7.823 32.963,7.823 ; -32.963,-7.823 32.971,-7.823 ccw(c32.971,-7.188) 33.606,-7.188 33.606,7.188 ccw(c32.971,7.188) 32.971,7.823 ; -26.247,3.937 -25.459,-4.546 ; -26.246,3.927 cw(c-24.926,4.191) -24.926,5.537 24.926,5.537 cw(c24.926,4.191) 26.242,3.904 ; -25.467,-4.53 ccw(c-24.164,-4.191) -24.164,-5.537 24.164,-5.537 ccw(c24.164,-4.191) 25.467,-4.53 ; 25.459,-4.521 26.247,3.911
  text "1" at -24.898,2.595 h1.97
  text "21" at -24.237,0.535 h1.57
  text "40" at -25.555,-1.565 h1.57
  text "60" at -24.615,-3.765 h1.57
  text "20" at 23.982,2.895 h1.57
  text "39" at 22.785,0.635 h1.57
  text "59" at 23.977,-1.465 h1.57
  text "78" at 22.737,-3.665 h1.57
  text "Male" at -21.717,7.239 h1.97
Mechanical 16:
  text "HDM78 CONEC" at 0.132,6.149 h1.97
Via Holes:
  circle w0: c30.55,0 r2.667
  circle w0: c-30.55,0 r2.667

## M09D [mil]
pads (9):
  rect 66.93x137.8 smd: 1(215.99,-237.98) 2(108.01,-237.98) 3(0,-237.99) 4(-108.01,-237.98) 5(-215.99,-237.98)
  rect 66.93x137.8 smd far side: 6(162,-238) 7(54,-238) 8(-54,-238) 9(-162,-238)
Top Overlay:
  rectangle: -610,36.06 610,56.06
  rectangle: -362.2,-163.78 362.2,-100.79
  lines w6: -410,40 -410,20 -405,20 -405,-75 ccw(c-380,-75) -380,-100 ; -380.75,-100 380.75,-100 ; -370,54.45 ccw(c-370,79.45) -345,79.45 -345,264.45 cw(c-325,264.45) -325,284.45 325,284.45 cw(c325,264.45) 345,264.45 345,79.45 ccw(c370,79.45) 370,54.45 ; -200,234.45 -200,144.45 -110,144.45 -110,234.45 ; -45,234.45 -45,144.45 45,144.45 45,234.45 ; 110,234.45 110,144.45 200,144.45 200,234.45 ; 380,-100 ccw(c380,-75) 405,-75 405,20 410,20 410,40
  text "1" at 198.93,-85.77 h77.5
  text "5" at -231.8,-85.77 h77.5
Bottom Overlay:
  text "9" at -145.19,-86.48 h77.5
  text "6" at 183.18,-86.48 h77.5
Mechanical 13:
  lines w10: -648,-108 -594,-162 -540,-108 -486,-162 -432,-108 ; 432,-108 486,-162 540,-108 594,-162 648,-108
  text "Board" at 450,-100 h77.5
  text "Board" at -650,-100 h77.5
Mechanical 16:
  rectangle: -239.62,-258.27 -192.38,-159.84
  rectangle: -131.62,-258.27 -84.38,-159.84
  rectangle: -23.62,-258.27 23.62,-159.84
  rectangle: 84.38,-258.27 131.62,-159.84
  rectangle: 192.38,-258.27 239.62,-159.84
  text "M09D" at -300,215.32 h77.5
Mechanical 30:
  rectangle: 138.38,-258.27 185.62,-159.84
  rectangle: 30.38,-258.27 77.62,-159.84
  rectangle: -77.62,-258.27 -30.38,-159.84
  rectangle: -185.62,-258.27 -138.38,-159.84

## M09H [mil]
pads (11):
  round 130 hole 130: 1(-493,0) 1(493,0)
  oct 60x60 hole 40: 1(-216,50) 2(-108,50) 3(0,50) 4(108,50) 5(216,50) 6(-162,-50) 7(-54,-50) 8(54,-50) 9(162,-50)
Bottom Layer keep-out:
  circle w0: c493,0 r105
  circle w0: c-493,0 r105
Top Overlay:
  circle w6: c493,0 r65
  circle w6: c-493,0 r65
  rectangle: -365,-300 365,-270
  rectangle: -610,-460 610,-440
  rectangle: -232,-270 -200,15
  rectangle: -178,-270 -146,-85
  rectangle: -124,-270 -92,15
  rectangle: -70,-270 -38,-85
  rectangle: -16,-270 16,15
  rectangle: 38,-270 70,-85
  rectangle: 92,-270 124,15
  rectangle: 146,-270 178,-85
  rectangle: 200,-270 232,15
  lines w6: -380,-300 ccw(c-380,-325) -405,-325 -405,-420 -410,-420 -410,-440 ; -370,-460 cw(c-370,-485) -345,-485 -345,-670 ccw(c-325,-670) -325,-690 -315,-690 315,-690 325,-690 ccw(c325,-670) 345,-670 345,-485 cw(c370,-485) 370,-460 ; -200,-640 -200,-550 -110,-550 -110,-640 ; -45,-640 -45,-550 45,-550 45,-640 ; 110,-640 110,-550 200,-550 200,-640 ; 380,-300 cw(c380,-325) 405,-325 405,-420 410,-420 410,-440 ; -610,-440 -610,-460 -330,-460 330,-460 610,-460 610,-440 ; -610,-440 -610,-420 -610,-300 ; -610,-440 -510,-440 -410,-440 ; -610,-300 -610,-295 -610,105 -590,125 -395,125 -375,105 -375,-300 ; -610,-300 -410,-300 -375,-300 ; -410,-440 410,-440 ; -375,-300 -365,-300 ; -365,-300 365,-300 ; -365,-300 -365,-270 365,-270 365,-300 ; 365,-300 375,-300 ; 375,-300 410,-300 610,-300 ; 375,-300 375,105 395,125 585,125 610,100 610,-295 610,-300 ; 410,-440 510,-440 610,-440 ; 610,-440 610,-420 610,-300
  text "1" at -300,25 h77.5
  text "5" at 285,25 h77.5
  text "9" at 285,-75 h77.5
  text "6" at -300,-80 h77.5
  text "2,54" at -535,-270 h77.5
  text "M09" at -300,-385 h77.5
Mechanical 16:
  lines w32: -216,5 -216,45 ; -162,-95 -162,-55 ; -108,5 -108,45 ; -54,-95 -54,-55 ; 0,5 0,45 ; 54,-95 54,-55 ; 108,5 108,45 ; 162,-95 162,-55 ; 216,5 216,45
Via Holes:
  circle w0: c493,0 r105
  circle w0: c-493,0 r105

## M09HP [mil]
pads (11):
  oct 60x60 hole 40: 1(-216,50) 2(-108,50) 3(0,50) 4(108,50) 5(216,50) 6(-162,-50) 7(-54,-50) 8(54,-50) 9(162,-50)
  round 200 hole 130: G1(-493,0) G2(493,0)
Top Overlay:
  circle w6: c493,0 r65
  circle w6: c-493,0 r65
  rectangle: 380,-420 390,-325
  rectangle: -390,-420 -380,-325
  rectangle: 473,-300 513,-235
  rectangle: -513,-300 -473,-235
  rectangle: -365,-300 365,-270
  rectangle: -610,-460 610,-440
  rectangle: -232,-270 -200,15
  rectangle: -178,-270 -146,-85
  rectangle: -124,-270 -92,15
  rectangle: -70,-270 -38,-85
  rectangle: -16,-270 16,15
  rectangle: 38,-270 70,-85
  rectangle: 92,-270 124,15
  rectangle: 146,-270 178,-85
  rectangle: 200,-270 232,15
  lines w6: -380,-300 ccw(c-380,-325) -405,-325 -405,-420 ; -370,-460 cw(c-370,-485) -345,-485 -345,-670 ccw(c-325,-670) -325,-690 -315,-690 ; -330,-670 -330,-460 ; -315,-480 -315,-690 ; 315,-480 315,-690 ; 330,-670 330,-460 ; 370,-460 ccw(c370,-485) 345,-485 345,-670 cw(c325,-670) 325,-690 315,-690 ; 380,-300 cw(c380,-325) 405,-325 405,-420 ; -610,-440 -610,-460 -330,-460 ; -610,-440 -610,-420 ; -610,-440 -510,-440 ; -610,-420 -610,-300 ; -610,-420 -510,-420 ; -610,-300 -610,-295 ; -610,-300 -410,-300 ; -610,-295 -410,-295 -410,-300 ; -610,-295 -610,105 -590,125 -395,125 -375,105 -375,-300 ; -510,-440 -510,-420 ; -510,-440 -410,-440 ; -510,-420 -510,-410 -410,-410 -410,-420 ; -410,-440 410,-440 ; -410,-440 -410,-420 ; -410,-420 -405,-420 ; -410,-300 -375,-300 ; -405,-420 405,-420 ; -375,-300 -365,-300 ; -365,-300 365,-300 ; -365,-300 -365,-270 365,-270 365,-300 ; -330,-460 330,-460 ; -315,-690 315,-690 ; 330,-460 610,-460 610,-440 ; 365,-300 375,-300 ; 375,-300 410,-300 ; 375,-300 375,105 395,125 585,125 610,100 610,-295 ; 405,-420 410,-420 ; 410,-440 510,-440 ; 410,-440 410,-420 ; 410,-420 410,-410 510,-410 510,-420 ; 410,-300 610,-300 ; 410,-300 410,-295 610,-295 ; 510,-440 610,-440 ; 510,-440 510,-420 ; 510,-420 610,-420 ; 610,-440 610,-420 ; 610,-420 610,-300 ; 610,-300 610,-295 ; -200,-640 -185,-640 -185,-565 -125,-565 -125,-640 -110,-640 -110,-550 -200,-550 -200,-640 ; -45,-640 -30,-640 -30,-565 30,-565 30,-640 45,-640 45,-550 -45,-550 -45,-640 ; 110,-640 125,-640 125,-565 185,-565 185,-640 200,-640 200,-550 110,-550 110,-640
  text "1" at -300,25 h77.5
  text "5" at 285,25 h77.5
  text "9" at 285,-75 h77.5
  text "6" at -300,-80 h77.5
  text "2,54" at -535,-270 h77.5
  text "M09" at -300,-385 h77.5
Mechanical 16:
  lines w32: -216,5 -216,45 ; -162,-95 -162,-55 ; -108,5 -108,45 ; -54,-95 -54,-55 ; 0,5 0,45 ; 54,-95 54,-55 ; 108,5 108,45 ; 162,-95 162,-55 ; 216,5 216,45

## M09SMT [mm]
pads (13):
  round 1.7 hole 1.7: 1(-10.24,0) 1(11.61,0)
  rect 1x2.8 smd: 1(5.48,1.975) 2(2.74,1.975) 3(0,1.975) 4(-2.74,1.975) 5(-5.48,1.975) 6(4.11,-1.975) 7(1.37,-1.975) 8(-1.37,-1.975) 9(-4.11,-1.975)
  rect 1x1 smd: S@1(12.485,-2.65) S@2(-11.115,-2.625)
Top Layer:
  region: 0,0 0.254,0 0.254,0.254 0,0.254
  region: 0,0 0.254,0 0.254,0.254 0,0.254
Top Overlay:
  rectangle: -7.938,-8.92 9.325,-8.158
  rectangle: -14.175,-11.684 15.575,-11.04
  lines w0.152: -8.092,-11.684 cw(c-8.092,-12.319) -7.457,-12.319 -7.457,-17.018 ccw(c-6.949,-17.018) -6.949,-17.526 -6.695,-17.526 ; -7.076,-17.018 -7.076,-11.684 ; -6.695,-12.192 -6.695,-17.526 ; 8.065,-12.192 8.065,-17.526 ; 8.446,-17.018 8.446,-11.684 ; 9.462,-11.684 ccw(c9.462,-12.319) 8.827,-12.319 8.827,-17.018 cw(c8.319,-17.018) 8.319,-17.526 8.065,-17.526 ; -14.188,-8.92 -14.188,-11.684 -7.076,-11.684 ; -14.188,-8.92 -14.14,-8.793 -14.14,3.016 15.51,3.016 15.51,-8.793 15.558,-8.92 ; -14.188,-8.92 -7.965,-8.92 ; -7.965,-8.92 9.335,-8.92 ; -7.965,-8.92 -7.965,-8.158 9.335,-8.158 9.335,-8.92 ; -7.076,-11.684 8.446,-11.684 ; -6.695,-17.526 8.065,-17.526 ; 8.446,-11.684 15.558,-11.684 15.558,-8.92 ; 9.335,-8.92 15.558,-8.92
  text "8" at -7.62,3.492 h1.97
  text "1" at 7.32,3.492 h1.97
  text "15" at -7.62,-2.54 h1.97
  text "9" at 6.368,-2.54 h1.97
  text "M15" at -5.989,-15.104 h1.97
Mechanical 1:
  lines w0: -14.317,-8.1 15.688,-8.1